# EAGLE library part AM85C30 (library F030NG)
SCC / 85C30
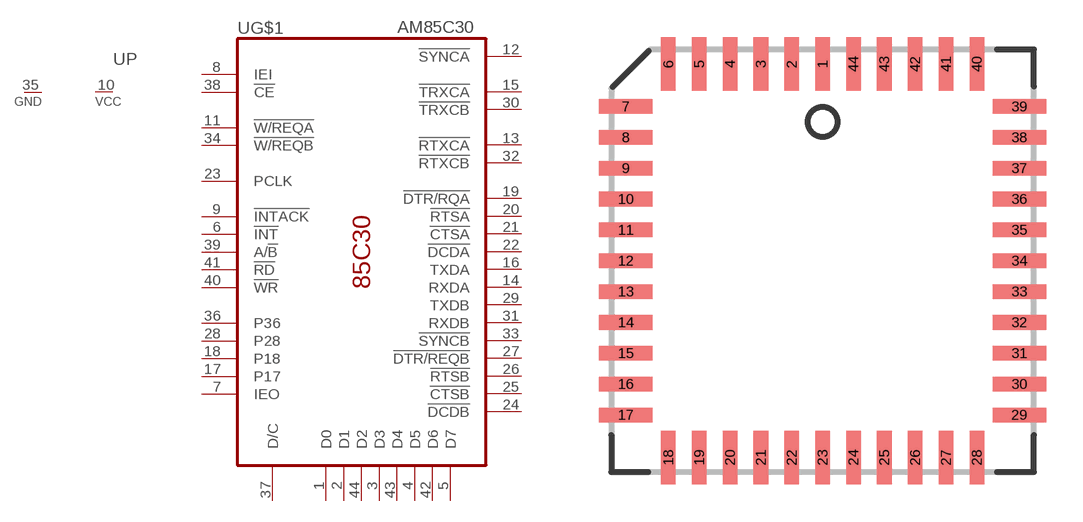
[diagram p32: symbol with the pads of PLCC44; footprint PLCC44]

Designator prefix U; gates G$1=SCC P=1VCC_1GND

## AM85C30  [PLCC44]
1  G$1:D0
2  G$1:D1
3  G$1:D3
4  G$1:D5
5  G$1:D7
6  G$1:!INT  out
7  G$1:IEO  out
8  G$1:IEI  in
9  G$1:!INTACK  in
10  P:VCC  pwr
11  G$1:!W/REQA  out
12  G$1:!SYNCA
13  G$1:!RTXCA  in
14  G$1:RXDA  in
15  G$1:!TRXCA
16  G$1:TXDA  out
17  G$1:P17  in
18  G$1:P18  in
19  G$1:!DTR/RQA  out
20  G$1:!RTSA  out
21  G$1:!CTSA  in
22  G$1:!DCDA  in
23  G$1:PCLK  in
24  G$1:!DCDB  in
25  G$1:!CTSB  in
26  G$1:!RTSB  out
27  G$1:!DTR/REQB  out
28  G$1:P28  in
29  G$1:TXDB  out
30  G$1:!TRXCB
31  G$1:RXDB  in
32  G$1:!RTXCB  in
33  G$1:!SYNCB
34  G$1:!W/REQB  out
35  P:GND  pwr
36  G$1:P36  in
37  G$1:D/C  in
38  G$1:!CE  in
39  G$1:A/!B  in
40  G$1:!WR  in
41  G$1:!RD  in
42  G$1:D6
43  G$1:D4
44  G$1:D2

## Footprint PLCC44 (pad centres in mm)
PLASTIC LEADED CHIP CARRIER square
smd 0.6 x 2.2: 1 0,8.1; 2 -1.27,8.1; 3 -2.54,8.1; 4 -3.81,8.1; 5 -5.08,8.1; 6 -6.35,8.1; 18 -6.35,-8.1; 19 -5.08,-8.1; 20 -3.81,-8.1; 21 -2.54,-8.1; 22 -1.27,-8.1; 23 0,-8.1; 24 1.27,-8.1; 25 2.54,-8.1; 26 3.81,-8.1; 27 5.08,-8.1; 28 6.35,-8.1; 40 6.35,8.1; 41 5.08,8.1; 42 3.81,8.1; 43 2.54,8.1; 44 1.27,8.1
smd 2.2 x 0.6: 7 -8.1,6.35; 8 -8.1,5.08; 9 -8.1,3.81; 10 -8.1,2.54; 11 -8.1,1.27; 12 -8.1,0; 13 -8.1,-1.27; 14 -8.1,-2.54; 15 -8.1,-3.81; 16 -8.1,-5.08; 17 -8.1,-6.35; 29 8.1,-6.35; 30 8.1,-5.08; 31 8.1,-3.81; 32 8.1,-2.54; 33 8.1,-1.27; 34 8.1,0; 35 8.1,1.27; 36 8.1,2.54; 37 8.1,3.81; 38 8.1,5.08; 39 8.1,6.35